# Altium schematic symbol library HEATSINK.SchLib: 1 symbol
Pins are listed as number, name and electrical type; pins without a type are passive.

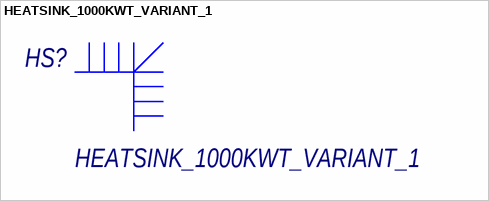
[diagram p0: symbol HEATSINK_1000KWT_VARIANT_1]

## HEATSINK_1000KWT_VARIANT_1
designator HS?
Радиатор охлаждения (условный)
footprint HEATSINK_1000KWT_VARIANT_1